# EAGLE library part TPS92512 (library U-TI-TPS92512-buck)
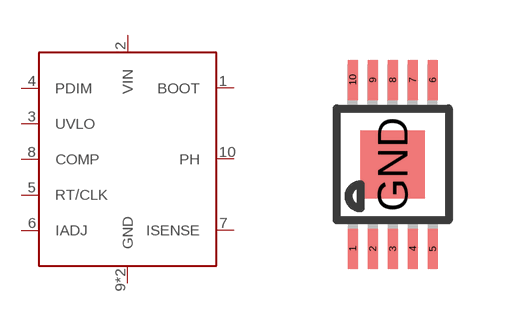
[diagram p0: symbol with the pads of MSOP10; footprint MSOP10]

Designator prefix -

## TPS92512  [MSOP10]
1  BOOT
2  VIN
3  UVLO
4  PDIM
5  RT/CLK
6  IADJ
7  ISENSE
8  COMP
9  GND
10  PH
GND  GND

## Footprint MSOP10 (pad centres in mm)
10-Lead Mini Small Outline Package [MSOP] (RM-10) Source: http://www.analog.com/UploadedFiles/Data_Sheets/35641221898805SSM2167_b.pdf COMPLIANT TO JEDEC STANDARDS MO-187BA
smd 0.25 x 1: 1 -1,-2.113; 2 -0.5,-2.113; 3 0,-2.113; 4 0.5,-2.113; 5 1,-2.113; 6 1,2.113; 7 0.5,2.113; 8 0,2.113; 9 -0.5,2.113; 10 -1,2.113
smd 1.6 x 1.7: GND 0,0